# Altium schematic symbol library 0.5MM.SchLib: 2 symbols
Pins are listed as number, name and electrical type; pins without a type are passive.

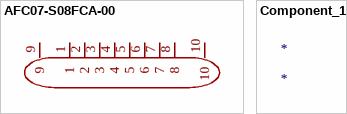
[diagram p0: symbols AFC07-S08FCA-00 to Component_1]

## AFC07-S08FCA-00
designator FPC??  (value not drawn)
Manufacturer: JS(钜硕电子); Add into BOM: yes; Locking Feature: 抽屉式; Number of Contacts: 8P; Pitch: 0.5mm; FFC, FCB Thickness: 0.3mm; Symbol: AFC07-S08FCA-00; Device: AFC07-S08FCA-00; LCSC Part Name: 间距:0.5mm P数:8P 抽屉式 下接; Supplier Part: C262555; Manufacturer Part: AFC07-S08FCA-00; Supplier Footprint: SMD,P=0.5mm,卧贴; JLCPCB Part Class: Extended Part; Datasheet: https://atta.szlcsc.com/upload/public/pdf/source/20190726/C11047_78689421E6D6672DE8D11ECCF89B3729.pdf; Supplier: LCSC; Convert to PCB: yes; Contact Type: 下接; Mounting Type: 卧贴; Height Above Board: 2mm
footprint FPC-SMD_AFC07-S08FCA-00
pins: 1, 2, 3, 4, 5, 6, 7, 8, 9, 10

## Component_1
designator *